# Altium footprint library Optocoupler.PCBLIB: 21 footprints (part 2 of 2)
Each footprint in its own frame and in the unit in brackets; x right, y up, seen from the top. Pads: shape width x height; smd on the part's side, far side on the other; paste and mask are expansions set on the pad; w line width, h text height; cw(c..) or ccw(c..) is an arc to the next point about the centre after c.
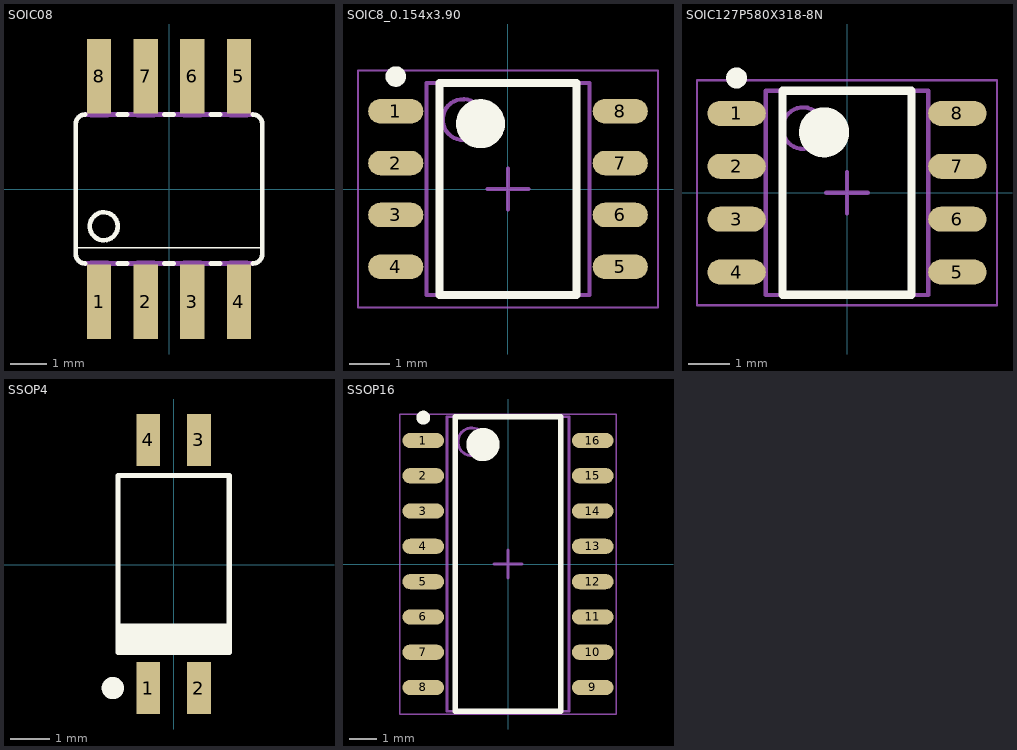
[diagram p1: the footprints below, top view; thin cyan lines are the x and y axes]

## SOIC08 [mil]
pads (8):
  rect 26x80 smd: 1(-75,-121) 2(-25,-121) 3(25,-121) 4(75,-121) 5(75,121) 6(25,121) 7(-25,121) 8(-75,121)
Top Overlay:
  circle w5: c-70,-40 r15
  lines w2: -100,-63 100,-63
  lines w5: -90,-80 cw(c-90,-70) -100,-70 -100,70 cw(c-90,70) -90,80 ; -55,-80 -45,-80 ; -55,80 -45,80 ; -5,-80 5,-80 ; -5,80 5,80 ; 45,-80 55,-80 ; 45,80 55,80 ; 90,-80 ccw(c90,-70) 100,-70 100,70 ccw(c90,70) 90,80
Mechanical 16:
  rectangle: -85,77 -65,122
  rectangle: -35,77 -15,122
  rectangle: 15,77 35,122
  rectangle: 65,-122 85,-77
  rectangle: 15,-122 35,-77
  rectangle: -35,-122 -15,-77
  rectangle: -85,-122 -65,-77
  rectangle: 65,77 85,122
  lines w5: -90,-80 -55,-80 ; -90,80 -55,80 ; -45,-80 -5,-80 ; -45,80 -5,80 ; 5,-80 45,-80 ; 5,80 45,80 ; 55,-80 90,-80 ; 55,80 90,80
3D body "User Library-SOIC-8-1.step": height 68.9, standoff 0, extent -95.45,-118.11 97.46,118.11

## SOIC8_0.154x3.90 [mm]
height 3.27
pads (8):
  oval 1.35x0.6 smd: 1(-2.75,1.905) 2(-2.75,0.635) 3(-2.75,-0.635) 4(-2.75,-1.905) 5(2.75,-1.905) 6(2.75,-0.635) 7(2.75,0.635) 8(2.75,1.905)
Top Overlay:
  circle w0.6: c-0.675,1.6 r0.3
  circle w0.25: c-2.75,2.755 r0.125
  lines w0.2: -1.675,-2.6 1.675,-2.6 1.675,2.6 -1.675,2.6 -1.675,-2.6
Mechanical 13:
  circle w0.1: c-1.1,1.7 r0.5
  lines w0.1: -2,-2.6 2,-2.6 2,2.6 -2,2.6 -2,-2.6
Mechanical 15:
  lines w0.05: -3.675,-2.9 3.675,-2.9 3.675,2.9 -3.675,2.9 -3.675,-2.9
  lines w0.1: -0.5,0 0.5,0 ; 0,-0.5 0,0.5
3D body "SOIC8_0.154x3.90.step": height 3.27, standoff 0, extent -3,-2.6 3,2.6

## SOIC127P580X318-8N [mm] "SOIC, 8-Leads, Body 4,88x3,92mm, Pitch 1,27mm, IPC Medium Density"
height 3.18
pads (8):
  oval 1.4x0.6 smd: 1(-2.65,1.905) 2(-2.65,0.635) 3(-2.65,-0.635) 4(-2.65,-1.905) 5(2.65,-1.905) 6(2.65,-0.635) 7(2.65,0.635) 8(2.65,1.905)
Top Overlay:
  circle w0.6: c-0.55,1.45 r0.3
  circle w0.25: c-2.65,2.755 r0.125
  lines w0.2: -1.55,-2.45 1.55,-2.45 1.55,2.45 -1.55,2.45 -1.55,-2.45
Mechanical 13:
  circle w0.1: c-1.05,1.55 r0.5
  lines w0.1: -1.95,-2.45 1.95,-2.45 1.95,2.45 -1.95,2.45 -1.95,-2.45
Mechanical 15:
  lines w0.05: -3.6,-2.7 3.6,-2.7 3.6,2.7 -3.6,2.7 -3.6,-2.7
  lines w0.1: -0.5,0 0.5,0 ; 0,-0.5 0,0.5
3D body "SOIC127P580X318-8N.step": height 3.18, standoff 0, extent -2.925,-2.45 2.925,2.45

## SSOP4 [mil]
pads (4):
  rect 23.62x51.18 smd: 1(-25,-122) 2(25,-122) 3(25,123) 4(-25,123)
Top Overlay:
  circle w12: c-60,-122 r5
  rectangle: -56,-85 56,-58
  lines w5: -55,-87 55,-87 55,88 -55,88 -55,-87
3D body "User Library-SSOP-4.step": height 78.37, standoff -1.18, extent -53.3,-137.59 53,138

## SSOP16 [mm] "SOP, 16-Leads, Body 10.30x4.40mm, Pitch 1.27mm, IPC High Density"
height 2
pads (16):
  oval 1.5x0.55 smd: 1(-3.05,4.445) 2(-3.05,3.175) 3(-3.05,1.905) 4(-3.05,0.635) 5(-3.05,-0.635) 6(-3.05,-1.905) 7(-3.05,-3.175) 8(-3.05,-4.445) 9(3.05,-4.445) 10(3.05,-3.175) 11(3.05,-1.905) 12(3.05,-0.635) 13(3.05,0.635) 14(3.05,1.905) 15(3.05,3.175) 16(3.05,4.445)
Top Overlay:
  circle w0.6: c-0.9,4.3 r0.3
  circle w0.25: c-3.05,5.27 r0.125
  lines w0.2: -1.9,-5.3 1.9,-5.3 1.9,5.3 -1.9,5.3 -1.9,-5.3
Mechanical 13:
  circle w0.1: c-1.3,4.4 r0.5
  lines w0.1: -2.2,-5.3 2.2,-5.3 2.2,5.3 -2.2,5.3 -2.2,-5.3
Mechanical 15:
  lines w0.05: -3.9,-5.4 3.9,-5.4 3.9,5.4 -3.9,5.4 -3.9,-5.4
  lines w0.1: -0.5,0 0.5,0 ; 0,-0.5 0,0.5
3D body "SSOP16.step": height 2, standoff 0, extent -3.5,-5.3 3.5,5.3